# EAGLE library part LTC3603 (library PowerProducts)
2.5A, 15V Monolithic Synchronous Step-Down Regulator
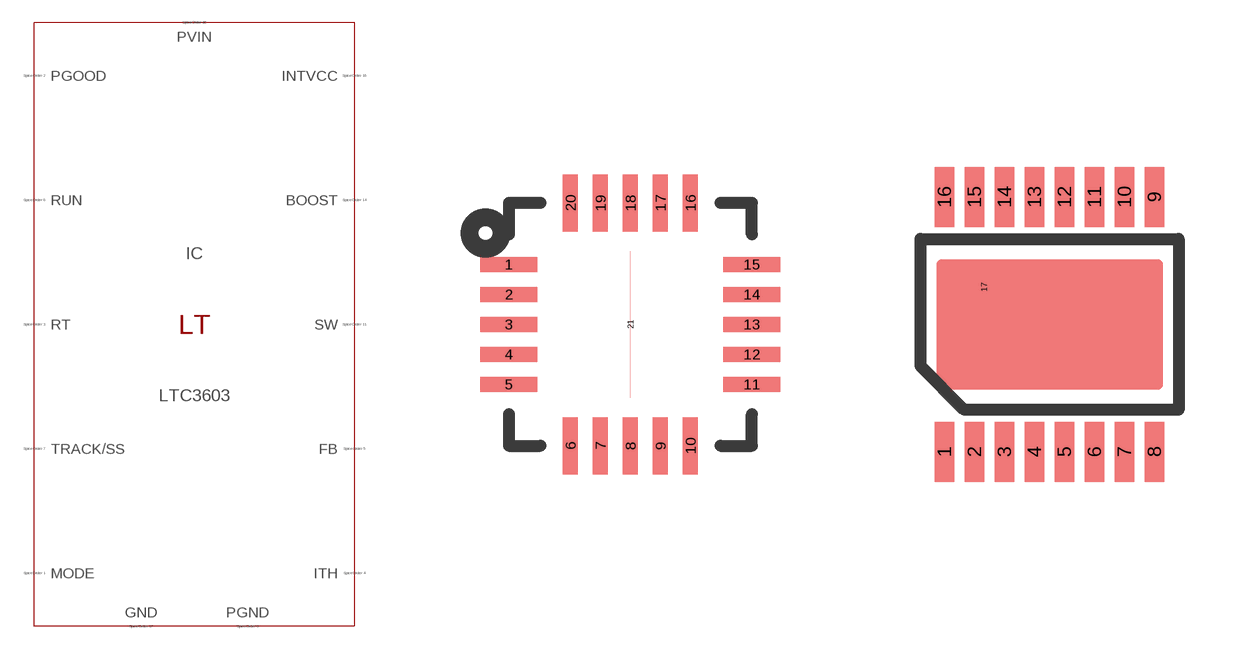
[diagram p258: symbol with the pads of QFN20(UF); footprints QFN20(UF), MSOP16(MSE)]

Designator prefix IC

## LTC3603UF (SPICEMODEL: LTC3603.sub; SPICEPREFIX: X; VALUE2: LTC3603)  [QFN20(UF)]
1  PVIN  pas
2  PVIN  pas
3  INTVCC  pas
4  MODE  pas
5  PGOOD  pas
6  RT  pas
7  ITH  pas
8  FB  pas
9  GND  pas
10  RUN  pas
11  TRACK/SS  pas
12  PGND  pas
13  PGND  pas
14  PGND  pas
15  PGND  pas
16  SW  pas
17  SW  pas
18  SW  pas
19  SW  pas
20  BOOST  pas
21  GND  pas

## LTC3603 (SPICEMODEL: LTC3603.sub; SPICEPREFIX: X; VALUE2: LTC3603)  [MSOP16(MSE)]
1  INTVCC  pas
2  MODE  pas
3  PGOOD  pas
4  RT  pas
5  ITH  pas
6  FB  pas
7  GND  pas
8  RUN  pas
9  TRACK/SS  pas
10  PGND  pas
11  PGND  pas
12  SW  pas
13  SW  pas
14  BOOST  pas
15  PVIN  pas
16  PVIN  pas
17  GND  pas

## Footprint QFN20(UF) (pad centres in mm)
Package generated from: QFN20(UF).asc (!PADS-POWERPCB-V9.3-BASIC! DESIGN DATABASE ASCII FILE 1.0) with :import-pads-powerpcb-v5.ulp Version 1.0.1 at 04.10.2012 14:11:23
smd 1.425 x 0.375: 1 -3.038,1.5; 2 -3.038,0.75; 3 -3.038,0; 4 -3.038,-0.75; 5 -3.038,-1.5; 11 3.038,-1.5; 12 3.038,-0.75; 13 3.038,0; 14 3.038,0.75; 15 3.038,1.5
smd 0.375 x 1.425: 6 -1.5,-3.038; 7 -0.75,-3.038; 8 0,-3.038; 9 0.75,-3.038; 10 1.5,-3.038; 16 1.5,3.038; 17 0.75,3.038; 18 0,3.038; 19 -0.75,3.038; 20 -1.5,3.038
smd 0 x 3.675: 21 0,0

## Footprint MSOP16(MSE) (pad centres in mm)
Package generated from: MSOP16(MSE).asc (!PADS-POWERPCB-V9.3-BASIC! DESIGN DATABASE ASCII FILE 1.0) with :import-pads-powerpcb-v5.ulp Version 1.0.1 at 04.10.2012 14:11:19
smd 0.495 x 1.5: 1 -2.625,-3.188; 2 -1.875,-3.188; 3 -1.125,-3.188; 4 -0.375,-3.188; 5 0.375,-3.188; 6 1.125,-3.188; 7 1.875,-3.188; 8 2.625,-3.188; 9 2.625,3.188; 10 1.875,3.188; 11 1.125,3.188; 12 0.375,3.188; 13 -0.375,3.188; 14 -1.125,3.188; 15 -1.875,3.188; 16 -2.625,3.188
smd 0 x 0.525: 17 -1.635,0.93